# Altium footprint library Varistor.PcbLib: 2 footprints
Each footprint in its own frame and in the unit in brackets; x right, y up, seen from the top. Pads: shape width x height; smd on the part's side, far side on the other; paste and mask are expansions set on the pad; w line width, h text height; cw(c..) or ccw(c..) is an arc to the next point about the centre after c.
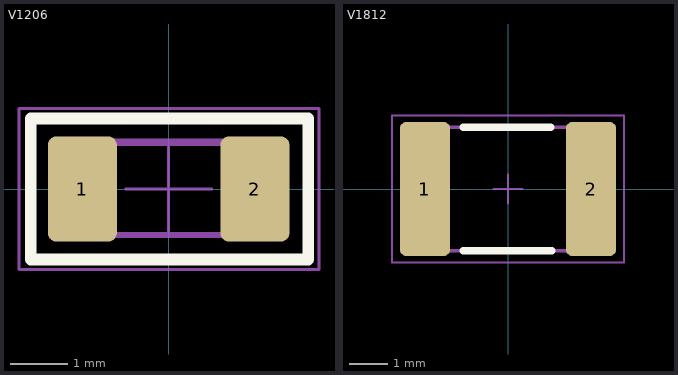
[diagram p0: the footprints below, top view; thin cyan lines are the x and y axes]

## V1206 [mm]
height 0.55
pads (2):
  rrect25% 1.2x1.83 smd: 1(-1.5,0) 2(1.5,0)
Top Overlay:
  lines w0.2: -2.4,-1.225 -2.4,1.225 2.425,1.225 2.425,-1.225 -2.4,-1.225
Mechanical 9:
  text ".Designator" at -4.8,2.2 h3.5
Mechanical 10:
  text ".Comment" at -3.1,-2.9 h2
Mechanical 11:
  lines w0.1: -1.6,-0.8 1.55,-0.8 1.55,0.825 -1.6,0.825 -1.6,-0.8
Mechanical 13:
  lines w0.1: -1.55,-0.8 1.55,-0.8 1.55,0.8 -1.55,0.8 -1.55,-0.8
Mechanical 15:
  lines w0.05: -0.75,0 0.75,0 ; 0,-0.75 0,0.75 ; -2.6,-1.4 2.613,-1.4 2.613,1.4 -2.6,1.4 -2.6,-1.4
3D body "User Library-V1206HD.STEP": height 1.5, standoff 0, extent -1.6,-0.8 1.6,0.8

## V1812 [mm]
height 1.7
pads (2):
  rrect25% 1.3x3.47 smd: 1(-2.15,0) 2(2.15,0)
Top Overlay:
  lines w0.2: -1.15,-1.6 1.125,-1.6 ; -1.15,1.6 1.1,1.6
Mechanical 9:
  text ".Designator" at -4.75,2.5 h3
Mechanical 10:
  text ".Comment" at -3,-3.5 h2
Mechanical 13:
  lines w0.1: -2.25,-1.6 -2.25,1.6 2.25,1.6 2.25,-1.6 -2.25,-1.6
Mechanical 15:
  lines w0.05: -0.375,0 0.375,0 ; 0,-0.375 0,0.375 ; -3,-1.9 -3,1.9 3,1.9 3,-1.9 -3,-1.9
3D body "User Library-V1812HD.STEP": height 2, standoff 0, extent -2.25,-1.6 2.25,1.6